# EAGLE library part 1X6 (library perspection)
TERM BLOCK PCB 6POS 3.5MM GREEN Digi-key Page <http://www.digikey.com/product-detail/en/1985234/277-1626-ND/568663>
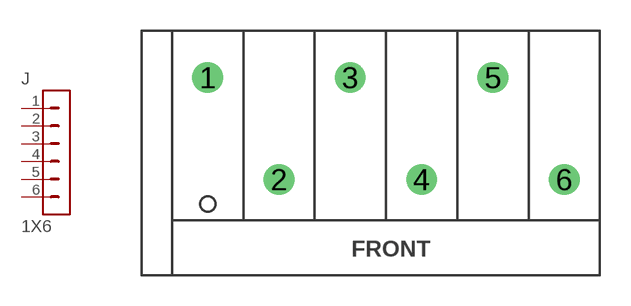
[diagram p14: symbol with the pads of 3.5MM_PTSA_1.5/6-3.5-Z; footprint 3.5MM_PTSA_1.5/6-3.5-Z]

Designator prefix J

## 1X6-PTSA_1.5/6-3.5-Z (DIST_NAME: Digi-Key; DIST_PN: 277-1626-ND; MFG_NAME: Phoenix Contact; MFG_PN: 1985234)  [3.5MM_PTSA_1.5/6-3.5-Z]
1  1  pas
2  2  pas
3  3  pas
4  4  pas
5  5  pas
6  6  pas

## Footprint 3.5MM_PTSA_1.5/6-3.5-Z (pad centres in mm)
drill 1: 1 -8.75,5; 2 -5.25,0; 3 -1.75,5; 4 1.75,0; 5 5.25,5; 6 8.75,0